# Altium footprint library S4B-XH-A.PcbLib: 1 footprints
Each footprint in its own frame and in the unit in brackets; x right, y up, seen from the top. Pads: shape width x height; smd on the part's side, far side on the other; paste and mask are expansions set on the pad; w line width, h text height; cw(c..) or ccw(c..) is an arc to the next point about the centre after c.
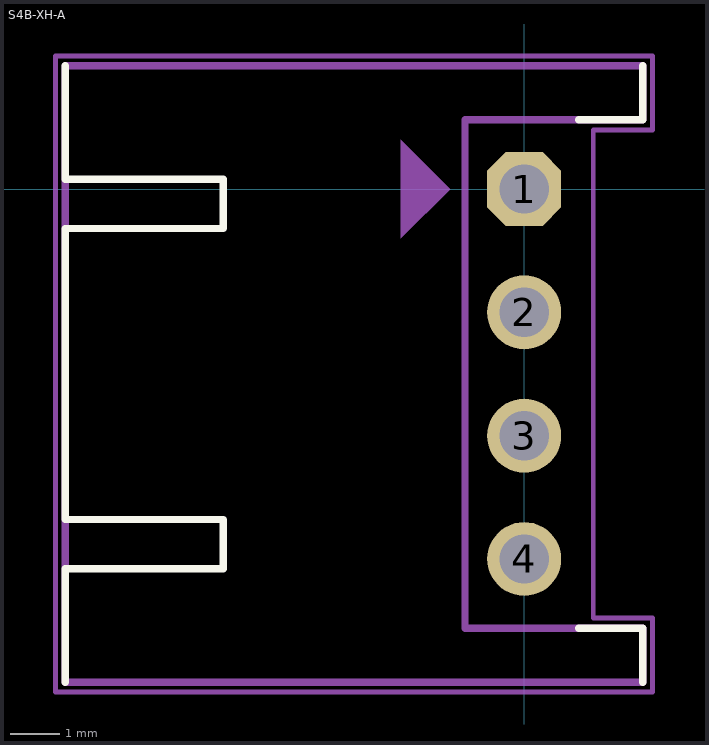
[diagram p0: the footprint, top view; thin cyan lines are the x and y axes]

## S4B-XH-A [mm]
pads (4):
  oct 1.5x1.5 hole 1 mask+0.05: 1(0,0)
  round 1.5 hole 1 mask+0.05: 2(0,-2.5) 3(0,-5) 4(0,-7.5)
Top Overlay:
  lines w0.15: -9.3,-10 -9.3,-7.7 -6.1,-7.7 -6.1,-6.7 -9.3,-6.7 -9.3,-0.8 -6.1,-0.8 -6.1,0.2 -9.3,0.2 -9.3,2.5 ; 1.1,-8.9 2.4,-8.9 2.4,-10 ; 1.1,1.4 2.4,1.4 2.4,2.5
Top Assembly:
  region: -1.5,0 -2.5,1 -2.5,-1
  lines w0.15: -9.3,-10 2.4,-10 2.4,-8.9 -1.2,-8.9 -1.2,1.4 2.4,1.4 2.4,2.5 -9.3,2.5 -9.3,-10
Top Courtyard:
  lines w0.1: -9.5,-10.2 2.6,-10.2 2.6,-8.7 1.4,-8.7 1.4,1.2 2.6,1.2 2.6,2.7 -9.5,2.7 -9.5,-10.2
3D body "S4B-XH-A.STEP": height 6.15, standoff -3.4, extent -9.2,-9.95 2.3,2.45